# Altium footprint library btn_pad.PcbLib: 1 footprints
Each footprint in its own frame and in the unit in brackets; x right, y up, seen from the top. Pads: shape width x height; smd on the part's side, far side on the other; paste and mask are expansions set on the pad; w line width, h text height; cw(c..) or ccw(c..) is an arc to the next point about the centre after c.
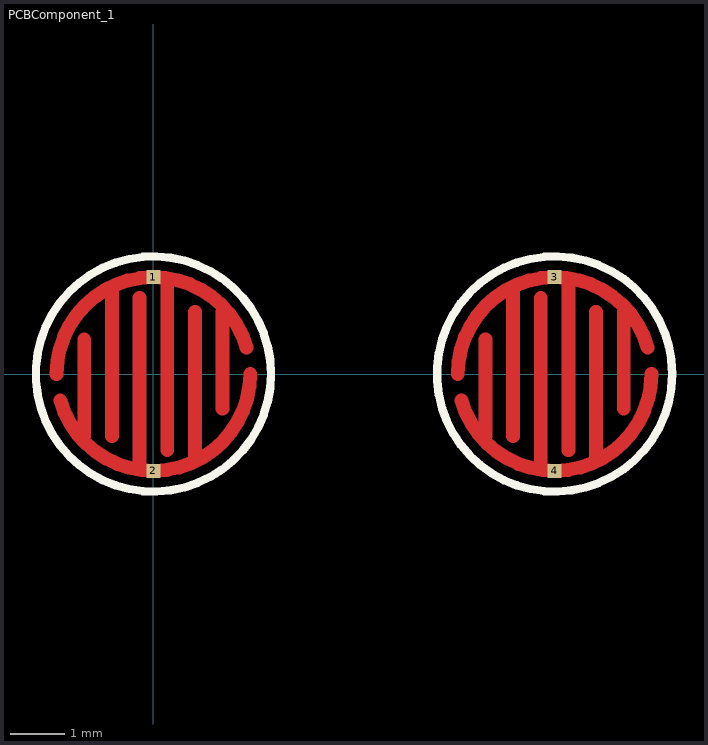
[diagram p0: the footprint, top view; thin cyan lines are the x and y axes]

## PCBComponent_1 [mil]
pads (4):
  rect 10x10 smd: 1(0,70) 2(0,-70) 3(290,70) 4(290,-70)
Top Layer:
  lines w10: -70,0 cw(c0,0) 67.31,19.23 ; -67.31,-19.23 ccw(c0,0) 70,0 ; -50,-45 -50,25 ; -30,-45 -30,60 ; -10,-65 -10,55 ; 10,-55 10,65 ; 30,-60 30,45 ; 50,-25 50,45 ; 220,0 cw(c290,0) 357.31,19.23 ; 222.69,-19.23 ccw(c290,0) 360,0 ; 240,-45 240,25 ; 260,-45 260,60 ; 280,-65 280,55 ; 300,-55 300,65 ; 320,-60 320,45 ; 340,-25 340,45
Top Overlay:
  circle w6: c0,0 r85
  circle w6: c290,0 r85
Top Solder:
  circle w10: c290,0 r69.64
  circle w10: c0,0 r69.64
  region: 290,-69.64 283.14,-69.64 269.69,-66.97 257.01,-61.72 245.61,-54.09 235.91,-44.39 228.28,-32.99 223.03,-20.31 220.36,-6.86 220.36,0 220.36,6.86 223.03,20.31 228.28,32.99 235.91,44.39 245.61,54.09 257.01,61.72 269.69,66.97 283.14,69.64 290,69.64 296.86,69.64 310.31,66.97 322.99,61.72 334.39,54.09 344.09,44.39 351.72,32.99 356.97,20.31 359.64,6.86 359.64,0 359.64,-6.86 356.97,-20.31 351.72,-32.99 344.09,-44.39 334.39,-54.09 322.99,-61.72 310.31,-66.97 296.86,-69.64
  region: 0,-69.64 -6.86,-69.64 -20.31,-66.97 -32.99,-61.72 -44.39,-54.09 -54.09,-44.39 -61.72,-32.99 -66.97,-20.31 -69.64,-6.86 -69.64,0 -69.64,6.86 -66.97,20.31 -61.72,32.99 -54.09,44.39 -44.39,54.09 -32.99,61.72 -20.31,66.97 -6.86,69.64 0,69.64 6.86,69.64 20.31,66.97 32.99,61.72 44.39,54.09 54.09,44.39 61.72,32.99 66.97,20.31 69.64,6.86 69.64,0 69.64,-6.86 66.97,-20.31 61.72,-32.99 54.09,-44.39 44.39,-54.09 32.99,-61.72 20.31,-66.97 6.86,-69.64